# Altium integrated library Diode.IntLib: 52 symbols
Pins are listed as number, name and electrical type; pins without a type are passive.

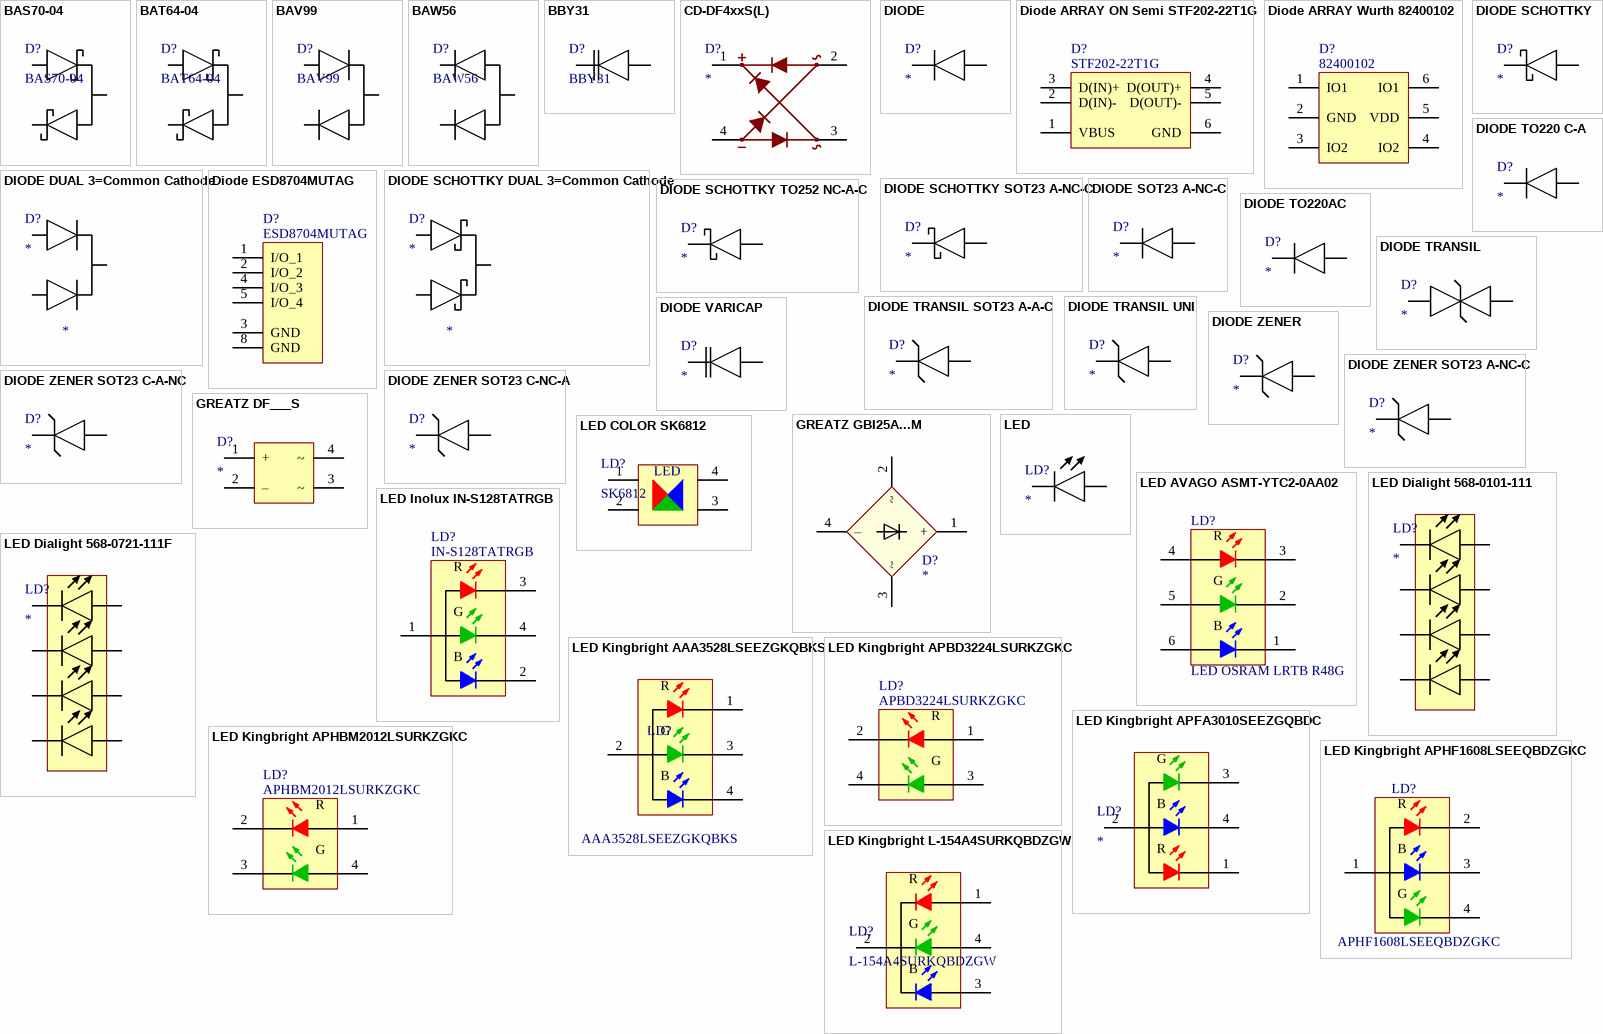
[diagram p0: symbols BAS70-04 to LED Kingbright L-154A4SURKQBDZGW]

## BAS70-04
designator D?
Diode Schottky, Double; Value: BAS70-04
footprint SOT23 P0.95 C1.6x3.0 H1.3 (SOT23, 3-Leads, Body 1.6x3.0mm, Pitch 0.95mm, IPC Medium Density)
pins: 1 A1, 2 C2, 3 COM

## BAT64-04
designator D?
Diode Schottky, Double; Value: BAT64-04
footprint SOT23 P0.95 C1.6x3.0 H1.3 (SOT23, 3-Leads, Body 1.6x3.0mm, Pitch 0.95mm, IPC Medium Density)
footprint SC70-3 P0.65 C1.4x2.2 H1.0 (SC70, 3-Leads, Body 2.2x1.40mm, Pitch 0.65mm, IPC Medium Density)
pins: 1 A1, 2 C2, 3 COM

## BAV99
designator D?
Diode Double; Value: BAV99
footprint SOT23 P0.95 C1.6x3.0 H1.3 (SOT23, 3-Leads, Body 1.6x3.0mm, Pitch 0.95mm, IPC Medium Density)
pins: 1 A1, 2 C2, 3 COM

## BAW56
designator D?
Diode Double Common Anode; Value: BAW56
footprint SOT23 P0.95 C1.6x3.0 H1.3 (SOT23, 3-Leads, Body 1.6x3.0mm, Pitch 0.95mm, IPC Medium Density)
pins: 1 A1, 2 C2, 3 COM

## BBY31
designator D?
Diode varicap SOT23; Value: BBY31
footprint SOT23 P0.95 C1.6x3.0 H1.3 (SOT23, 3-Leads, Body 1.6x3.0mm, Pitch 0.95mm, IPC Medium Density); pin to pad 1>3 2>1
pins: 1 C, 2 A

## CD-DF4xxS(L)
designator D?
Surface Mount Bridge Rectifier Diode; Value: *
footprint CD-DF4xxS(L) (Bridge Rectifier Diodes)
pins: 1 +, 2 ~, 3 ~, 4 –

## DIODE
designator D?
Diode generic 2 leads; Value: *
footprint DIODE DO35 P7.5 (Diode DO35 pitch 7.5mm, Diameter 1.8mm, Case 4.3mm)
footprint DIODE DO41 P10 (Diode DO41 pitch 10mm, Diameter 2.8mm, Case 5.2mm)
footprint DIODE SOD923-F REFLOW (DIODE SMD SOD923-F)
footprint DIODE TO247AD - CA VERTICAL (Diode TO247AD - CA Vertical Mount)
footprint DIODE DO-214AC (SMA) (Molded Diode, 2-Leads, Body 4.40x2.80mm, IPC Medium Density)
footprint DIODE MELF 5125 (MELF Diode, 2-Leads, Body 5.15x2.46mm, IPC High Density)
footprint DIODE MINI MELF DO213AA (DIODE MINI MELF DO213AA D1.6  L3.6)
footprint DIODE D5.4 L7.5 P12.5 (Diode Body D5.4 L7.5  P12.5)
footprint DIODE SOD123-FL REFLOW (DIODE SMD SOD123-FL)
footprint DIODE SOD323 REFLOW (DIODE SMD SOD123-FL, 2-Leads, Body 1.8x1.40mm)
footprint DIODE DO-214AA (SMB) (Molded Diode, 2-Leads, Body 4.60x4.0mm, IPC Medium Density)
footprint DIODE MICROMELF (DIODE MICRO MELF)
footprint DIODE DO-214AB (SMC) (Molded Diode, 2-Leads, Body 7.2x6.2mm, Height 2.65, IPC Medium Density)
footprint DIODE SOD882 REFLOW (DIODE SMD SOD882, No Leads, Body 1.0x0.60mm)
footprint DIODE DO27 P15 (Diode DO41 pitch 15mm, Diameter 5.6mm, Case 9.6mm)
pins: 1 C, 2 A

## Diode ARRAY ON Semi STF202-22T1G
designator D?, comment STF202-22T1G
USB Filter with ESD Protection; Value: STF202-22T1G
footprint SOT23-6 P0.95 C1.5x3.0 H1.3 (SOT23, 6-Leads, Body 1.6x3.0mm, Pitch 0.95mm, IPC Medium Density)
pins: 1 VBUS, 2 D(IN)-, 3 D(IN)+, 4 D(OUT)+, 5 D(OUT)-, 6 GND

## Diode ARRAY Wurth 82400102
designator D?, comment 82400102
ESD Protection for 2 high-speed I/O channels; Value: 82400102
footprint SOT23-6 P0.95 C1.5x3.0 H1.3 (SOT23, 6-Leads, Body 1.6x3.0mm, Pitch 0.95mm, IPC Medium Density)
pins: 1 IO1, 2 GND, 3 IO2, 4 IO2, 5 VDD, 6 IO1

## DIODE DUAL 3=Common Cathode
designator D?
Diode Double; Value: *
footprint SOT23 P0.95 C1.6x3.0 H1.3 (SOT23, 3-Leads, Body 1.6x3.0mm, Pitch 0.95mm, IPC Medium Density)
footprint TO252-2 P2.29 C6.2x6.7 H2.4 (TO252-2 LEAD (DPAK), Body 6.2x6.7mm)
pins: 1 A1, 2 C2, 3 COM

## Diode ESD8704MUTAG
designator D?, comment ESD8704MUTAG
Low Capacitance Array for High Speed data Lines; Value: ESD8704MUTAG
footprint Diode ESD8704MUTAG (DIODE SMD, Body 2.5x1.0mm)
pins: 1 I/O_1, 2 I/O_2, 3 GND, 4 I/O_3, 5 I/O_4, 8 GND

## DIODE SCHOTTKY
designator D?
Diode Schottky generic 2 Leads; Value: *
footprint DIODE DO35 P7.5 (Diode DO35 pitch 7.5mm, Diameter 1.8mm, Case 4.3mm)
footprint DIODE DO41 P10 (Diode DO41 pitch 10mm, Diameter 2.8mm, Case 5.2mm)
footprint DIODE SOD923-F REFLOW (DIODE SMD SOD923-F)
footprint DIODE MELF 5125 (MELF Diode, 2-Leads, Body 5.15x2.46mm, IPC High Density)
footprint DIODE DO-214AC (SMA) (Molded Diode, 2-Leads, Body 4.40x2.80mm, IPC Medium Density)
footprint DIODE SOD123-FL REFLOW (DIODE SMD SOD123-FL)
footprint DIODE SOD882 REFLOW (DIODE SMD SOD882, No Leads, Body 1.0x0.60mm)
footprint DIODE SOD323 REFLOW (DIODE SMD SOD123-FL, 2-Leads, Body 1.8x1.40mm)
pins: 1 C, 2 A

## DIODE SCHOTTKY DUAL 3=Common Cathode
designator D?
Diode Schottky, Double; Value: *
footprint SOT23 P0.95 C1.6x3.0 H1.3 (SOT23, 3-Leads, Body 1.6x3.0mm, Pitch 0.95mm, IPC Medium Density)
pins: 1 A1, 2 C2, 3 COM

## DIODE SCHOTTKY SOT23 A-NC-C
designator D?
Diode Schottky generic 3 Leads; Value: *
footprint SOT23 P0.95 C1.6x3.0 H1.3 (SOT23, 3-Leads, Body 1.6x3.0mm, Pitch 0.95mm, IPC Medium Density); pin to pad 1>3 2>1
pins: 1 C, 2 A

## DIODE SCHOTTKY TO252 NC-A-C
designator D?
Diode Schottky generic 3 Leads; Value: *
footprint TO252-2 P2.29 C6.2x6.7 H2.4 (TO252-2 LEAD (DPAK), Body 6.2x6.7mm)
pins: 2 A, 3 C

## DIODE SOT23 A-NC-C
designator D?
Diode generic 3 leads; Value: *
footprint SOT23 P0.95 C1.6x3.0 H1.3 (SOT23, 3-Leads, Body 1.6x3.0mm, Pitch 0.95mm, IPC Medium Density); pin to pad 1>3 2>1
pins: 1 C, 2 A

## DIODE TO220 C-A
designator D?
Diode generic 2 leads; Value: *
footprint TO220AC VERTICAL (TO220AC VERTICAL, Pitch 2.5, Case 10.4x4.7)
pins: 1 A, 2 C

## DIODE TO220AC
designator D?
Diode generic 2 leads; Value: *
footprint TO220-2P (TO220 ,2Pin, VERTICAL, Pitch 2.5, Case 10.4x4.7)
pins: 1 C, 2 A

## DIODE TRANSIL
designator D?
Diode Transil generic; Value: *
footprint DIODE TRANSIL DO-214AB (SMC) (Molded Diode, 2-Leads, Body 7.2x6.2mm, Height 2.65, IPC Medium Density)
footprint DIODE DO-214AA (SMB) (Molded Diode, 2-Leads, Body 4.60x4.0mm, IPC Medium Density)
footprint DIODE 1005 REFLOW (Diode SMD 1.0x0.5mm (0402-imperial))
pins: 1 C, 2 A

## DIODE TRANSIL SOT23 A-A-C
designator D?
Diode Transil generic; Value: *
footprint SOT23 P0.95 C1.6x3.0 H1.3 (SOT23, 3-Leads, Body 1.6x3.0mm, Pitch 0.95mm, IPC Medium Density); pin to pad 1>1+2
pins: 1 A, 3 C

## DIODE TRANSIL UNI
designator D?
Diode Transil Uni-directional generic; Value: *
footprint DIODE DO-214AA (SMB) (Molded Diode, 2-Leads, Body 4.60x4.0mm, IPC Medium Density)
footprint DIODE DO-214AC (SMA) (Molded Diode, 2-Leads, Body 4.40x2.80mm, IPC Medium Density)
footprint DIODE DO41 P10 (Diode DO41 pitch 10mm, Diameter 2.8mm, Case 5.2mm)
pins: 1 C, 2 A

## DIODE VARICAP
designator D?
Diode varicap generic; Value: *
footprint DIODE SC79 C1.6x0.8 H0.7 (SODFL, 2-Leads, Body 0.80x1.60mm, IPC Medium Density)
pins: 1 C, 2 A

## DIODE ZENER
designator D?
Diode zener generic; Value: *
footprint DIODE DO35 P7.5 (Diode DO35 pitch 7.5mm, Diameter 1.8mm, Case 4.3mm)
footprint DIODE DO41 P10 (Diode DO41 pitch 10mm, Diameter 2.8mm, Case 5.2mm)
footprint DIODE SOD923-F REFLOW (DIODE SMD SOD923-F)
footprint DIODE DO4 M4 P30 (Diode DO4 M4 pitch 30mm, Diameter 12mm, Case 12mm)
footprint DIODE D5.4 L10.0 P15.0 (Diode Body D5.4 L7.5  P12.5)
footprint DIODE SOD723 REFLOW (DIODE SMD SOD723)
footprint DIODE MINI MELF DO213AA (DIODE MINI MELF DO213AA D1.6  L3.6)
footprint DIODE MICROMELF (DIODE MICRO MELF)
footprint DIODE DO-214AA (SMB) (Molded Diode, 2-Leads, Body 4.60x4.0mm, IPC Medium Density)
footprint DIODE DO-214AB (SMC) (Molded Diode, 2-Leads, Body 7.2x6.2mm, Height 2.65, IPC Medium Density)
footprint DIODE DO-214AC (SMA) (Molded Diode, 2-Leads, Body 4.40x2.80mm, IPC Medium Density)
pins: 1 C, 2 A

## DIODE ZENER SOT23 A-NC-C
designator D?
Diode Zener generic 3 leads; Value: *
footprint SOT23 P0.95 C1.6x3.0 H1.3 (SOT23, 3-Leads, Body 1.6x3.0mm, Pitch 0.95mm, IPC Medium Density)
pins: 1 A, 3 C

## DIODE ZENER SOT23 C-A-NC
designator D?
Diode Zener generic 3 leads; Value: *
footprint SOT23 P0.95 C1.6x3.0 H1.3 (SOT23, 3-Leads, Body 1.6x3.0mm, Pitch 0.95mm, IPC Medium Density)
pins: 1 C, 2 A

## DIODE ZENER SOT23 C-NC-A
designator D?
Diode Zener generic 3 leads; Value: *
footprint SOT23 P0.95 C1.6x3.0 H1.3 (SOT23, 3-Leads, Body 1.6x3.0mm, Pitch 0.95mm, IPC Medium Density)
pins: 1 C, 3 A

## GREATZ DF___S
designator D?
GREATZ DF___S; Value: *
footprint GREATZ DF___S C6.5x8.5 (Bridge Rectifier Diodes)
pins: 1 +, 2 –, 3 ~, 4 ~

## GREATZ GBI25A...M
designator D?
GREATZ DF___S; Value: *
footprint GREATZ GBI25x (GBI25A... GBI25M Single Phase Diode Bridge Rectifier)
pins: 1 +, 2 ~, 3 ~, 4 –

## LED
designator LD?
LED generic; Value: *
footprint LED 1005 REFLOW (LED SMD 1.0x0.5mm (0402-imperial))
footprint LED 1608 REFLOW (LED SMD 1.6x0.8mm (0603-imperial))
footprint LED 2012 REFLOW (LED SMD 2.0x1.2mm (0805-imperial))
footprint LED VISHAY VSMY2850G (High Speed Infrared Emitting Diodes)
footprint LED 5mm WHITE (Standard LED 5mm WHITE)
footprint LED 5mm RED (Standard LED 5mm Red)
footprint LED 5mm GREEN (Standard LED 5mm GREEN)
footprint LED 3mm Green (Standard LED 3mm Green)
footprint LED 3mm Red (Standard LED 3mm Red)
footprint LED 3mm White (Standard LED 3mm White)
footprint LED PLCC2 (LED SMD 3.2x2.8mm)
footprint LED Side View 2.2x0.5 (LED SMD Side View 2.2x05.mm, Everlight 12-215SURC)
footprint LED OSRAM SFH4451 (LED SMD 2.3x2.0mm Osram SFH4451)
footprint LED Everlight 62-17 (LED SMD 5.6x3.0mm); pin to pad 2>3
footprint LED OSRAM LRP47F top mount (LED SMD 2.0mm Osram LRP47F, top mount, Pattern not designed for heat dissipation)
footprint LED 3216 REFLOW (LED SMD 3.2x1.6mm (1206-imperial))
footprint LED VISHAY VLMW712 (LED SMD 7.0x6.0mm, VISHAY VLMW712)
footprint LED SMLP11 (LED SMD 1.0x0.6mm SMLP11)
footprint LED OSRAM LW TWTG.BB-BXBY-2B12B3-Z486 (LED SMD 2.8x3.2mm Osram LW TWTG.BB TOPLED® Black Surface)
pins: 1 C, 2 A

## LED AVAGO ASMT-YTC2-0AA02
designator LD?, comment LED OSRAM LRTB R48G
High Brightness Tricolor PLCC6 Black Body LED; Value: LED OSRAM LRTB R48G
footprint LED AVAGO ASMT-YTC2-0AA02 (High Brightness Tricolor PLCC6 Black Body LED, thermal optimisation pattern)
pins: 1 A, 2 B, 3 G, 4 R, 5, 6

## LED COLOR SK6812
designator LD?, comment SK6812
LED COLOR SK6812; Value: SK6812
footprint LED COLOR SK6812 (LED SMD 5.0x5.0mm)
pins: 1 VSS, 2 DIN, 3 VDD, 4 DOUT
text: LED

## LED Dialight 568-0101-111
designator LD?
LED Dialight 568-0101-111; Value: *
footprint LED Dialight 568-0101-111 (3mm LED CBI  Circuit Board Indicator  QUAD-LEVEL)
pins: 1 C, 2 A, 3 C, 4 A, 5 C, 6 A, 7 C, 8 A

## LED Dialight 568-0721-111F
designator LD?
LED Dialight 568-0721-111F; Value: *
footprint LED Dialight 568-0721-111 (3mm LED CBI  Circuit Board Indicator  QUAD-LEVEL)
pins: 1 C, 2 A, 3 C, 4 A, 5 C, 6 A, 7 C, 8 A

## LED Inolux IN-S128TATRGB
designator LD?, comment IN-S128TATRGB
Top View SMD LED 1210 PCB Type; Value: IN-S128TATRGB
footprint LED IN-S128TATRGB (LED SMD, 4-Leads, Body 3.2x2.7mm, Height 1.1mm)
pins: 1 A, 2 B, 3 R, 4 G

## LED Kingbright AAA3528LSEEZGKQBKS
designator LD?, comment AAA3528LSEEZGKQBKS
3.5x2.8mm SURFACE MOUNT LED LAMP; Value: AAA3528LSEEZGKQBKS
footprint LED Kingbright AAA3528LSEEZGKQBKS (3.5x2.8mm SURFACE MOUNT LED LAMP)
pins: 1 R, 2 A, 3 G, 4 B

## LED Kingbright APBD3224LSURKZGKC
designator LD?, comment APBD3224LSURKZGKC
3.2x2.4mm SMD Chip LED Lamp; Value: APBD3224LSURKZGKC
footprint LED APBD3224LSURKZGKC (SMD, 4-Leads, Body 3.2x2.4mm, Height 2.4mm)
pins: 1 A, 2 R, 3 B, 4 G

## LED Kingbright APFA3010SEEZGQBDC
designator LD?
Right Angle SMD Chip Led Lamp; Value: *
footprint LED APFA3010SEEZGQBDC (SMD, 4-Leads, Body 3x1.5mm, Height 1mm)
footprint LED APFA3010SEEZGQBDC Side Mount (SMD, 4-Leads, Body 3x1.5mm, Height 1mm)
pins: 1 R, 2 A, 3 G, 4 B

## LED Kingbright APHBM2012LSURKZGKC
designator LD?, comment APHBM2012LSURKZGKC
2.0x1.2mm SMD Chip LED Lamp; Value: APHBM2012LSURKZGKC
footprint LED APHBM2012LSURKZGKC (SMD, 4-Leads, Body 2.0x1.25mm, Height 0.45mm)
pins: 1, 2, 3, 4
text: R; G

## LED Kingbright APHF1608LSEEQBDZGKC
designator LD?, comment APHF1608LSEEQBDZGKC
1.6x0.8mm SURFACE MOUNT LED; Value: APHF1608LSEEQBDZGKC
footprint LED KingBright APHF1608LSEEQBDZGKC (LED SMD KingBright APHF1608LSEEQBDZGKC)
pins: 1 A, 2 R, 3 B, 4 G

## LED Kingbright L-154A4SURKQBDZGW
designator LD?, comment L-154A4SURKQBDZGW
RGB Led TH 5mm; Value: L-154A4SURKQBDZGW
footprint LED RGB L-154A4SURKQBDZGW
pins: 1 B, 2 A, 3 R, 4 G

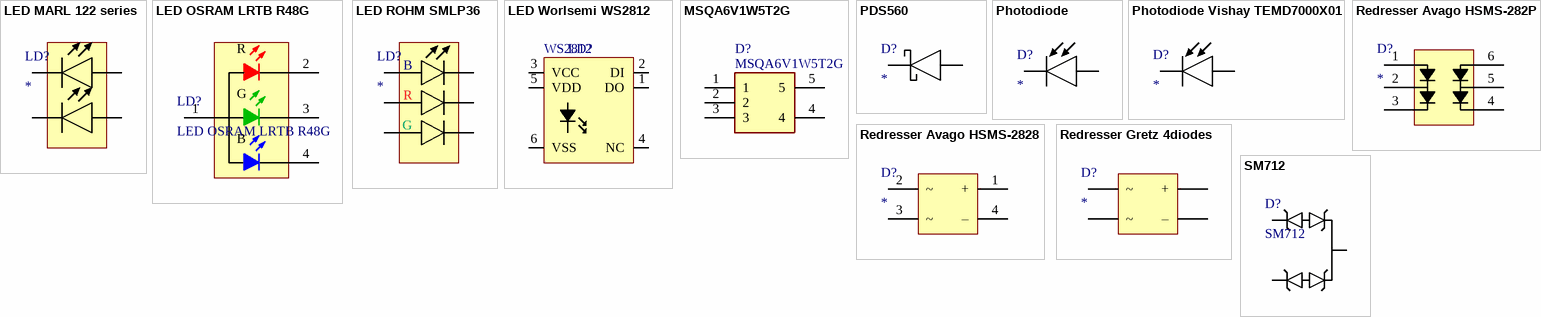
[diagram p1: symbols LED MARL 122 series to SM712]

## LED MARL 122 series
designator LD?
LED Dialight 568-0101-111; Value: *
footprint LED MARL 122 series (Dual LED 3mm)
pins: 1 A1, 2 A2, 3 C2, 4 C1

## LED OSRAM LRTB R48G
designator LD?
RGB Led SMD 1x1mm; Value: LED OSRAM LRTB R48G
footprint LED AVAGO ASMT-YTC2-0AA02 (High Brightness Tricolor PLCC6 Black Body LED, thermal optimisation pattern)
pins: 1 A, 2 B, 3 G, 4 R

## LED ROHM SMLP36
designator LD?
PicoLed RGB; Value: *
footprint LED SMLP36 (Triple LED RGB)
pins: 1, 2, 3, 4, 5, 6
text: B; R; G

## LED Worlsemi WS2812
designator LD?, comment WS2812
Intelligent control LED  integrated light source; Value: WS2812
footprint LED Worldsemi WS2812 (Intelligent control LED  integrated light source)
pins: 1 DO, 2 DI, 3 VCC, 4 NC, 5 VDD, 6 VSS

## MSQA6V1W5T2G
designator D?
ESD Protection Diode Array
footprint SC70-5 P0.65 C1.4x2.2 H1.0 (SC70, 5-Leads, Body 2.2x1.40mm, Pitch 0.65mm, IPC Medium Density)
pins: 1, 2 (power), 3, 4, 5

## PDS560
designator D?
Diode Schottky generic 2 Leads; Value: *
footprint DIODE POWERDI5 (DIODE POWERDI5, 3-Leads, Body 6.5x4.0mm Height 1.1mm)
pins: 1 C, 2 A

## Photodiode
designator D?
Photodiode generic; Value: *
footprint Photodiode 2012 REFLOW (Photodiode SMD 2.0x1.2mm (0805-imperial))
pins: 1 C, 2 A

## Photodiode Vishay TEMD7000X01
designator D?
Silicon PIN Photodiode SMD 2012 (0805-imperial); Value: *
footprint Photodiode Vishay TEMD7000X01 (Photodiode SMD 2.0x1.2mm (0805-imperial))
pins: 1 C, 2 A

## Redresser Avago HSMS-282P
designator D?
Bridge quad Schottky; Value: *
footprint SC70-6 P0.65 C1.4x2.2 H1.0 (SC70, 6-Leads, Body 2.2x1.40mm, Pitch 0.65mm, IPC Medium Density)
pins: 1, 2, 3, 4, 5, 6

## Redresser Avago HSMS-2828
designator D?
Bridge quad Schottky; Value: *
footprint Avago HSMS-282x (SOT143, 4-Leads, not IPC compliant wrong numbering)
pins: 1 +, 2 ~, 3 ~, 4 –

## Redresser Gretz 4diodes
designator D?
Redresser Gretz 4diodes; Value: *
footprint Redresser B40R; pin to pad 1>2 2>3 3>1
pins: 1 ~, 2 ~, 3 +, 4 –

## SM712
designator D?
Asymmetrical TVS Diode Array; Value: SM712
footprint SOT23 P0.95 C1.6x3.0 H1.3 (SOT23, 3-Leads, Body 1.6x3.0mm, Pitch 0.95mm, IPC Medium Density)
pins: 1 A1, 2 C2, 3 COM